# EAGLE library part 6270XX20621_62703020621 (library WR-BHD)
WR-BHD 1.27 mm Male Characteristics Working Voltage: 250 V Operating Temperature : -40°C up to 105°C UL approval: E323964 UL94-V0 Applications Industrial Production lines Details see: www.we-online.com/components/products/WTB_WR_BHD_BOX_HEADER_1_27MM_MALE Updated by Ella 2026-09-16 2026 (C) Würth Elektronik
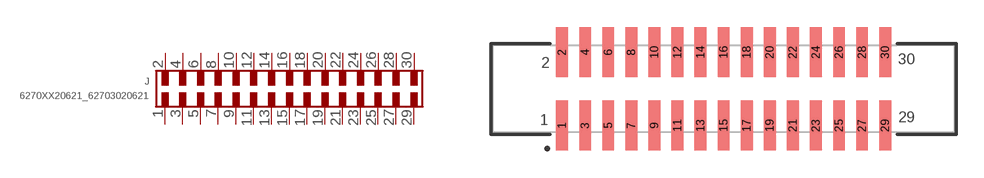
[diagram p118: symbol with the pads of 62703020621; footprint 62703020621]

Designator prefix J

## 6270XX20621_62703020621 (CATEGORY: Connectors; DATASHEET: https://www.we-online.com/redexpert/spec/62703020621?ae; GENDER: Male; LENGTH: 25.4 mm; MANUFACTURER: Würth Elektronik; MOUNT: SMT; MPN: 62703020621; OPERATING_TEMPERATURE: -40 °C up to +105 °C; PACKAGING: Tube; PINS: 30; PITCH: 1.27mm; RATED_CURRENT: 1 A; SIZE: SMT Straight; TYPE: Straight; VALUE: 62703020621)  [62703020621]
1  1  pas
2  2  pas
3  3  pas
4  4  pas
5  5  pas
6  6  pas
7  7  pas
8  8  pas
9  9  pas
10  10  pas
11  11  pas
12  12  pas
13  13  pas
14  14  pas
15  15  pas
16  16  pas
17  17  pas
18  18  pas
19  19  pas
20  20  pas
21  21  pas
22  22  pas
23  23  pas
24  24  pas
25  25  pas
26  26  pas
27  27  pas
28  28  pas
29  29  pas
30  30  pas

## Footprint 62703020621 (pad centres in mm)
WR-BHD Wire-to-Board Connectors, 1.27mm, Male, SMT Straight, 30pins
smd 0.65 x 2.76: 1 -8.89,-2.02; 2 -8.89,2.02; 3 -7.62,-2.02; 4 -7.62,2.02; 5 -6.35,-2.02; 6 -6.35,2.02; 7 -5.08,-2.02; 8 -5.08,2.02; 9 -3.81,-2.02; 10 -3.81,2.02; 11 -2.54,-2.02; 12 -2.54,2.02; 13 -1.27,-2.02; 14 -1.27,2.02; 15 0,-2.02; 16 0,2.02; 17 1.27,-2.02; 18 1.27,2.02; 19 2.54,-2.02; 20 2.54,2.02; 21 3.81,-2.02; 22 3.81,2.02; 23 5.08,-2.02; 24 5.08,2.02; 25 6.35,-2.02; 26 6.35,2.02; 27 7.62,-2.02; 28 7.62,2.02; 29 8.89,-2.02; 30 8.89,2.02